# Altium footprint library WR-TBL_Pluggable Connector_5.00mm.PcbLib: 148 footprints (part 3 of 10)
Each footprint in its own frame and in the unit in brackets; x right, y up, seen from the top. Pads: shape width x height; smd on the part's side, far side on the other; paste and mask are expansions set on the pad; w line width, h text height; cw(c..) or ccw(c..) is an arc to the next point about the centre after c.
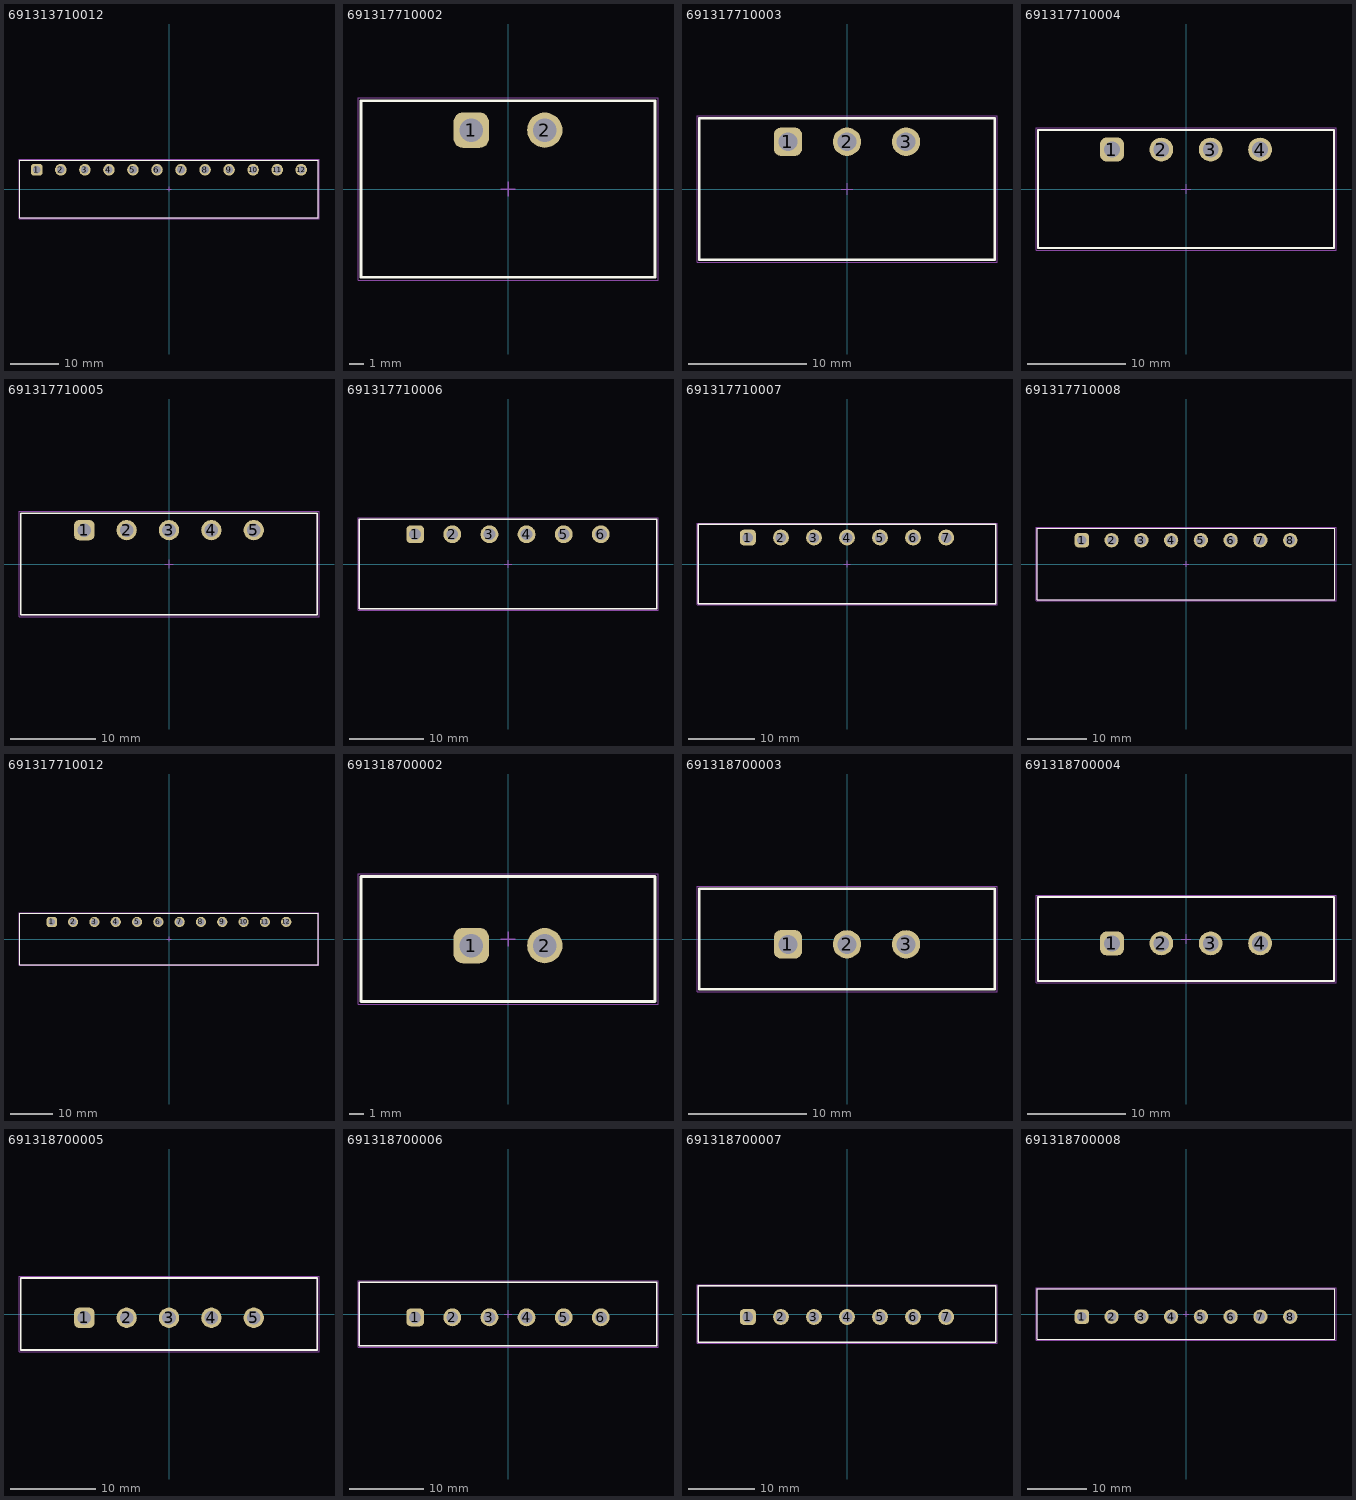
[diagram p2: the footprints below, top view; thin cyan lines are the x and y axes]

## 691313710012 [mm] "5.00mm - Closed Horizhontal PCB Header - -12p"
height 8.5
pads (12):
  rrect50% 2.4x2.4 hole 1.6: 1(-27.5,4)
  round 2.4 hole 1.6: 2(-22.5,4) 3(-17.5,4) 4(-12.5,4) 5(-7.5,4) 6(-2.5,4) 7(2.5,4) 8(7.5,4) 9(12.5,4) 10(17.5,4) 11(22.5,4) 12(27.5,4)
Top Overlay:
  lines w0.2: -31,-6 31,-6 31,6 -31,6 -31,-6
Top Assembly:
  lines w0.1: -31,-6 -31,6 31,6 31,-6 -31,-6
Top Designator:
  text ".Designator" at -3.647,-0.357 h1
Top 3D Body:
  lines w0.1: -31,-6 31,-6 31,6 -31,6 -31,-6
Top Courtyard:
  lines w0.05: -31.2,-6.2 -31.2,6.2 31.2,6.2 31.2,-6.2 -31.2,-6.2
Top Component Center:
  lines w0.1: -0.5,0 0.5,0 ; 0,-0.5 0,0.5
3D body "691313710012.stp": height 8.55, standoff -3.45, extent -31,-6 31,6

## 691317710002 [mm] "5.00mm - Closed Horizhontal PCB Header with Flanges - 02p"
height 8.5
pads (2):
  rrect50% 2.4x2.4 hole 1.6: 1(-2.5,4)
  round 2.4 hole 1.6: 2(2.5,4)
Top Overlay:
  lines w0.2: -10,-6 10,-6 10,6 -10,6 -10,-6
Top Assembly:
  lines w0.1: -10,-6 -10,6 10,6 10,-6 -10,-6
Top Designator:
  text ".Designator" at -3.647,-0.357 h1
Top 3D Body:
  lines w0.1: -10,-6 10,-6 10,6 -10,6 -10,-6
Top Courtyard:
  lines w0.05: -10.2,-6.2 -10.2,6.2 10.2,6.2 10.2,-6.2 -10.2,-6.2
Top Component Center:
  lines w0.1: -0.5,0 0.5,0 ; 0,-0.5 0,0.5
3D body "691317710002.stp": height 8.55, standoff -3.95, extent -10,-6 10,6

## 691317710003 [mm] "5.00mm - Closed Horizhontal PCB Header with Flanges - 03p"
height 8.5
pads (3):
  rrect50% 2.4x2.4 hole 1.6: 1(-5,4)
  round 2.4 hole 1.6: 2(0,4) 3(5,4)
Top Overlay:
  lines w0.2: -12.5,-6 12.5,-6 12.5,6 -12.5,6 -12.5,-6
Top Assembly:
  lines w0.1: -12.5,-6 -12.5,6 12.5,6 12.5,-6 -12.5,-6
Top Designator:
  text ".Designator" at -3.647,-0.357 h1
Top 3D Body:
  lines w0.1: -12.5,-6 12.5,-6 12.5,6 -12.5,6 -12.5,-6
Top Courtyard:
  lines w0.05: -12.7,-6.2 -12.7,6.2 12.7,6.2 12.7,-6.2 -12.7,-6.2
Top Component Center:
  lines w0.1: -0.5,0 0.5,0 ; 0,-0.5 0,0.5
3D body "691317710003.stp": height 8.55, standoff -3.95, extent -12.5,-6 12.5,6

## 691317710004 [mm] "5.00mm - Closed Horizhontal PCB Header with Flanges - 04p"
height 8.5
pads (4):
  rrect50% 2.4x2.4 hole 1.6: 1(-7.5,4)
  round 2.4 hole 1.6: 2(-2.5,4) 3(2.5,4) 4(7.5,4)
Top Overlay:
  lines w0.2: -15,-6 -15,6 15,6 15,-6 -15,-6
Top Assembly:
  lines w0.1: -15,-6 15,-6 15,6 -15,6 -15,-6
Top Designator:
  text ".Designator" at -3.647,-0.357 h1
Top 3D Body:
  lines w0.1: -15,-6 -15,6 15,6 15,-6 -15,-6
Top Courtyard:
  lines w0.05: -15.2,-6.2 15.2,-6.2 15.2,6.2 -15.2,6.2 -15.2,-6.2
Top Component Center:
  lines w0.1: -0.5,0 0.5,0 ; 0,-0.5 0,0.5
3D body "691317710004.stp": height 8.55, standoff -3.95, extent -15,-6 15,6

## 691317710005 [mm] "5.00mm - Closed Horizhontal PCB Header with Flanges - 05p"
height 8.5
pads (5):
  rrect50% 2.4x2.4 hole 1.6: 1(-10,4)
  round 2.4 hole 1.6: 2(-5,4) 3(0,4) 4(5,4) 5(10,4)
Top Overlay:
  lines w0.2: -17.5,-6 17.5,-6 17.5,6 -17.5,6 -17.5,-6
Top Assembly:
  lines w0.1: -17.5,-6 -17.5,6 17.5,6 17.5,-6 -17.5,-6
Top Designator:
  text ".Designator" at -3.647,-0.357 h1
Top 3D Body:
  lines w0.1: -17.5,-6 17.5,-6 17.5,6 -17.5,6 -17.5,-6
Top Courtyard:
  lines w0.05: -17.7,-6.2 -17.7,6.2 17.7,6.2 17.7,-6.2 -17.7,-6.2
Top Component Center:
  lines w0.1: -0.5,0 0.5,0 ; 0,-0.5 0,0.5
3D body "691317710005.stp": height 8.55, standoff -3.95, extent -17.5,-6 17.5,6

## 691317710006 [mm] "5.00mm - Closed Horizhontal PCB Header with Flanges - 06p"
height 8.5
pads (6):
  rrect50% 2.4x2.4 hole 1.6: 1(-12.5,4)
  round 2.4 hole 1.6: 2(-7.5,4) 3(-2.5,4) 4(2.5,4) 5(7.5,4) 6(12.5,4)
Top Overlay:
  lines w0.2: -20,-6 -20,6 20,6 20,-6 -20,-6
Top Assembly:
  lines w0.1: -20,-6 20,-6 20,6 -20,6 -20,-6
Top Designator:
  text ".Designator" at -3.647,-0.357 h1
Top 3D Body:
  lines w0.1: -20,-6 -20,6 20,6 20,-6 -20,-6
Top Courtyard:
  lines w0.05: -20.2,-6.2 20.2,-6.2 20.2,6.2 -20.2,6.2 -20.2,-6.2
Top Component Center:
  lines w0.1: -0.5,0 0.5,0 ; 0,-0.5 0,0.5
3D body "691317710006.stp": height 8.55, standoff -3.95, extent -20,-6 20,6

## 691317710007 [mm] "5.00mm - Closed Horizhontal PCB Header with Flanges - 07p"
height 8.5
pads (7):
  rrect50% 2.4x2.4 hole 1.6: 1(-15,4)
  round 2.4 hole 1.6: 2(-10,4) 3(-5,4) 4(0,4) 5(5,4) 6(10,4) 7(15,4)
Top Overlay:
  lines w0.2: -22.5,-6 22.5,-6 22.5,6 -22.5,6 -22.5,-6
Top Assembly:
  lines w0.1: -22.5,-6 -22.5,6 22.5,6 22.5,-6 -22.5,-6
Top Designator:
  text ".Designator" at -3.647,-0.357 h1
Top 3D Body:
  lines w0.1: -22.5,-6 22.5,-6 22.5,6 -22.5,6 -22.5,-6
Top Courtyard:
  lines w0.05: -22.7,-6.2 -22.7,6.2 22.7,6.2 22.7,-6.2 -22.7,-6.2
Top Component Center:
  lines w0.1: -0.5,0 0.5,0 ; 0,-0.5 0,0.5
3D body "691317710007.stp": height 8.55, standoff -3.95, extent -22.5,-6 22.5,6

## 691317710008 [mm] "5.00mm - Closed Horizhontal PCB Header with Flanges - 08p"
height 8.5
pads (8):
  rrect50% 2.4x2.4 hole 1.6: 1(-17.5,4)
  round 2.4 hole 1.6: 2(-12.5,4) 3(-7.5,4) 4(-2.5,4) 5(2.5,4) 6(7.5,4) 7(12.5,4) 8(17.5,4)
Top Overlay:
  lines w0.2: -25,-6 25,-6 25,6 -25,6 -25,-6
Top Assembly:
  lines w0.1: -25,-6 -25,6 25,6 25,-6 -25,-6
Top Designator:
  text ".Designator" at -3.647,-0.357 h1
Top 3D Body:
  lines w0.1: -25,-6 25,-6 25,6 -25,6 -25,-6
Top Courtyard:
  lines w0.05: -25.2,-6.2 -25.2,6.2 25.2,6.2 25.2,-6.2 -25.2,-6.2
Top Component Center:
  lines w0.1: -0.5,0 0.5,0 ; 0,-0.5 0,0.5
3D body "691317710008.stp": height 8.55, standoff -3.95, extent -25,-6 25,6

## 691317710012 [mm] "5.00mm - Closed Horizhontal PCB Header with Flanges - 12p"
height 8.5
pads (12):
  rrect50% 2.4x2.4 hole 1.6: 1(-27.5,4)
  round 2.4 hole 1.6: 2(-22.5,4) 3(-17.5,4) 4(-12.5,4) 5(-7.5,4) 6(-2.5,4) 7(2.5,4) 8(7.5,4) 9(12.5,4) 10(17.5,4) 11(22.5,4) 12(27.5,4)
Top Overlay:
  lines w0.2: -35,-6 -35,6 35,6 35,-6 -35,-6
Top Assembly:
  lines w0.1: -35,-6 35,-6 35,6 -35,6 -35,-6
Top Designator:
  text ".Designator" at -3.647,-0.357 h1
Top 3D Body:
  lines w0.1: -35,-6 -35,6 35,6 35,-6 -35,-6
Top Courtyard:
  lines w0.05: -35.2,-6.2 35.2,-6.2 35.2,6.2 -35.2,6.2 -35.2,-6.2
Top Component Center:
  lines w0.1: -0.5,0 0.5,0 ; 0,-0.5 0,0.5
3D body "691317710012.stp": height 8.55, standoff -3.95, extent -35,-6 35,6

## 691318700002 [mm] "5.00mm - Closed Vertical PCB Header with Flanges - 02p"
height 12
pads (2):
  rrect50% 2.4x2.4 hole 1.6: 1(-2.5,-0.45)
  round 2.4 hole 1.6: 2(2.5,-0.45)
Top Overlay:
  lines w0.2: -10,-4.25 10,-4.25 10,4.25 -10,4.25 -10,-4.25
Top Assembly:
  lines w0.1: -10,-4.25 -10,4.25 10,4.25 10,-4.25 -10,-4.25
Top Designator:
  text ".Designator" at -3.647,-0.357 h1
Top 3D Body:
  lines w0.1: -10,-4.25 10,-4.25 10,4.25 -10,4.25 -10,-4.25
Top Courtyard:
  lines w0.05: -10.2,-4.45 -10.2,4.45 10.2,4.45 10.2,-4.45 -10.2,-4.45
Top Component Center:
  lines w0.1: -0.5,0 0.5,0 ; 0,-0.5 0,0.5
3D body "691318700002.stp": height 12.1, standoff -3.9, extent -10,-4.25 10,4.25

## 691318700003 [mm] "5.00mm - Closed Vertical PCB Header with Flanges - 03p"
height 12
pads (3):
  rrect50% 2.4x2.4 hole 1.6: 1(-5,-0.45)
  round 2.4 hole 1.6: 2(0,-0.45) 3(5,-0.45)
Top Overlay:
  lines w0.2: -12.5,-4.25 -12.5,4.25 12.5,4.25 12.5,-4.25 -12.5,-4.25
Top Assembly:
  lines w0.1: -12.5,-4.25 12.5,-4.25 12.5,4.25 -12.5,4.25 -12.5,-4.25
Top Designator:
  text ".Designator" at -3.647,-0.357 h1
Top 3D Body:
  lines w0.1: -12.5,-4.25 -12.5,4.25 12.5,4.25 12.5,-4.25 -12.5,-4.25
Top Courtyard:
  lines w0.05: -12.7,-4.45 12.7,-4.45 12.7,4.45 -12.7,4.45 -12.7,-4.45
Top Component Center:
  lines w0.1: -0.5,0 0.5,0 ; 0,-0.5 0,0.5
3D body "691318700003.stp": height 12.1, standoff -3.9, extent -12.5,-4.25 12.5,4.25

## 691318700004 [mm] "5.00mm - Closed Vertical PCB Header with Flanges - 04p"
height 12
pads (4):
  rrect50% 2.4x2.4 hole 1.6: 1(-7.5,-0.45)
  round 2.4 hole 1.6: 2(-2.5,-0.45) 3(2.5,-0.45) 4(7.5,-0.45)
Top Overlay:
  lines w0.2: -15,-4.25 15,-4.25 15,4.25 -15,4.25 -15,-4.25
Top Assembly:
  lines w0.1: -15,-4.25 -15,4.25 15,4.25 15,-4.25 -15,-4.25
Top Designator:
  text ".Designator" at -3.647,-0.357 h1
Top 3D Body:
  lines w0.1: -15,-4.25 15,-4.25 15,4.25 -15,4.25 -15,-4.25
Top Courtyard:
  lines w0.05: -15.2,-4.45 -15.2,4.45 15.2,4.45 15.2,-4.45 -15.2,-4.45
Top Component Center:
  lines w0.1: -0.5,0 0.5,0 ; 0,-0.5 0,0.5
3D body "691318700004.stp": height 12.1, standoff -3.9, extent -15,-4.25 15,4.25

## 691318700005 [mm] "5.00mm - Closed Vertical PCB Header with Flanges - 05p"
height 12
pads (5):
  rrect50% 2.4x2.4 hole 1.6: 1(-10,-0.45)
  round 2.4 hole 1.6: 2(-5,-0.45) 3(0,-0.45) 4(5,-0.45) 5(10,-0.45)
Top Overlay:
  lines w0.2: -17.5,-4.25 -17.5,4.25 17.5,4.25 17.5,-4.25 -17.5,-4.25
Top Assembly:
  lines w0.1: -17.5,-4.25 17.5,-4.25 17.5,4.25 -17.5,4.25 -17.5,-4.25
Top Designator:
  text ".Designator" at -3.647,-0.357 h1
Top 3D Body:
  lines w0.1: -17.5,-4.25 -17.5,4.25 17.5,4.25 17.5,-4.25 -17.5,-4.25
Top Courtyard:
  lines w0.05: -17.7,-4.45 17.7,-4.45 17.7,4.45 -17.7,4.45 -17.7,-4.45
Top Component Center:
  lines w0.1: -0.5,0 0.5,0 ; 0,-0.5 0,0.5
3D body "691318700005.stp": height 12.1, standoff -3.9, extent -17.5,-4.25 17.5,4.25

## 691318700006 [mm] "5.00mm - Closed Vertical PCB Header with Flanges - 06p"
height 12
pads (6):
  rrect50% 2.4x2.4 hole 1.6: 1(-12.5,-0.45)
  round 2.4 hole 1.6: 2(-7.5,-0.45) 3(-2.5,-0.45) 4(2.5,-0.45) 5(7.5,-0.45) 6(12.5,-0.45)
Top Overlay:
  lines w0.2: -20,-4.25 -20,4.25 20,4.25 20,-4.25 -20,-4.25
Top Assembly:
  lines w0.1: -20,-4.25 20,-4.25 20,4.25 -20,4.25 -20,-4.25
Top Designator:
  text ".Designator" at -3.647,-0.357 h1
Top 3D Body:
  lines w0.1: -20,-4.25 -20,4.25 20,4.25 20,-4.25 -20,-4.25
Top Courtyard:
  lines w0.05: -20.2,-4.45 20.2,-4.45 20.2,4.45 -20.2,4.45 -20.2,-4.45
Top Component Center:
  lines w0.1: -0.5,0 0.5,0 ; 0,-0.5 0,0.5
3D body "691318700006.stp": height 12.1, standoff -3.9, extent -20,-4.25 20,4.25

## 691318700007 [mm] "5.00mm - Closed Vertical PCB Header with Flanges - 07p"
height 12
pads (7):
  rrect50% 2.4x2.4 hole 1.6: 1(-15,-0.45)
  round 2.4 hole 1.6: 2(-10,-0.45) 3(-5,-0.45) 4(0,-0.45) 5(5,-0.45) 6(10,-0.45) 7(15,-0.45)
Top Overlay:
  lines w0.2: -22.5,-4.25 -22.5,4.25 22.5,4.25 22.5,-4.25 -22.5,-4.25
Top Assembly:
  lines w0.1: -22.5,-4.25 22.5,-4.25 22.5,4.25 -22.5,4.25 -22.5,-4.25
Top Designator:
  text ".Designator" at -3.647,-0.357 h1
Top 3D Body:
  lines w0.1: -22.5,-4.25 -22.5,4.25 22.5,4.25 22.5,-4.25 -22.5,-4.25
Top Courtyard:
  lines w0.05: -22.7,-4.45 22.7,-4.45 22.7,4.45 -22.7,4.45 -22.7,-4.45
Top Component Center:
  lines w0.1: -0.5,0 0.5,0 ; 0,-0.5 0,0.5
3D body "691318700007.stp": height 12.1, standoff -3.9, extent -22.5,-4.25 22.5,4.25

## 691318700008 [mm] "5.00mm - Closed Vertical PCB Header with Flanges - 08p"
height 12
pads (8):
  rrect50% 2.4x2.4 hole 1.6: 1(-17.5,-0.45)
  round 2.4 hole 1.6: 2(-12.5,-0.45) 3(-7.5,-0.45) 4(-2.5,-0.45) 5(2.5,-0.45) 6(7.5,-0.45) 7(12.5,-0.45) 8(17.5,-0.45)
Top Overlay:
  lines w0.2: -25,-4.25 25,-4.25 25,4.25 -25,4.25 -25,-4.25
Top Assembly:
  lines w0.1: -25,-4.25 -25,4.25 25,4.25 25,-4.25 -25,-4.25
Top Designator:
  text ".Designator" at -3.647,-0.357 h1
Top 3D Body:
  lines w0.1: -25,-4.25 25,-4.25 25,4.25 -25,4.25 -25,-4.25
Top Courtyard:
  lines w0.05: -25.2,-4.45 -25.2,4.45 25.2,4.45 25.2,-4.45 -25.2,-4.45
Top Component Center:
  lines w0.1: -0.5,0 0.5,0 ; 0,-0.5 0,0.5
3D body "691318700008.stp": height 12.1, standoff -3.9, extent -25,-4.25 25,4.25